# Altium footprint library TO.PcbLib: 2 footprints
Each footprint in its own frame and in the unit in brackets; x right, y up, seen from the top. Pads: shape width x height; smd on the part's side, far side on the other; paste and mask are expansions set on the pad; w line width, h text height; cw(c..) or ccw(c..) is an arc to the next point about the centre after c.
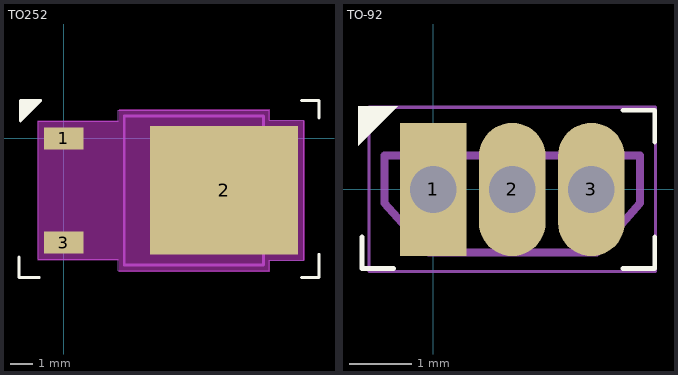
[diagram p0: the footprints below, top view; thin cyan lines are the x and y axes]

## TO252 [mm]
pads (3):
  rect 1.73x0.96 smd: 1(0,0) 3(0,-4.57)
  rect 6.49x5.63 smd paste-4: 2(7.02,-2.285)
Top Overlay:
  region: -1.015,1.652 -1.904,1.652 -1.904,0.763
  lines w0.127: -1.967,-5.206 -1.967,-6.095 -1.078,-6.095 ; 10.415,-6.095 11.177,-6.095 11.177,-5.079 ; 10.415,1.652 11.177,1.652 11.177,0.89 ; -1.904,0.763 -1.015,1.652 -1.904,1.652 -1.904,0.763
Top Paste:
  region: 7.735,-1.73 6.305,-1.73 6.305,-0.02 7.735,-0.02
  region: 9.905,-1.73 8.475,-1.73 8.475,-0.02 9.905,-0.02
  region: 5.565,-1.73 4.135,-1.73 4.135,-0.02 5.565,-0.02
  region: 5.565,-4.55 4.135,-4.55 4.135,-2.84 5.565,-2.84
  region: 7.735,-4.55 6.305,-4.55 6.305,-2.84 7.735,-2.84
  region: 9.905,-4.55 8.475,-4.55 8.475,-2.84 9.905,-2.84
Keep-Out Layer:
  region: 2.414,1.271 9.018,1.271 9.018,0.763 10.542,0.763 10.542,-5.333 9.018,-5.333 9.018,-5.841 2.414,-5.841 2.414,-5.333 -1.142,-5.333 -1.142,0.763 2.414,0.763
Mechanical 13:
  lines w0.127: 2.642,-5.555 2.642,0.985 8.743,0.985 8.743,-5.555 2.642,-5.555
Mechanical 15:
  lines w0.05: -1.115,-5.31 -1.115,0.74 2.392,0.74 2.392,1.235 8.993,1.235 8.993,0.78 10.515,0.78 10.515,-5.35 8.993,-5.35 8.993,-5.805 2.392,-5.805 2.392,-5.31 -1.115,-5.31
3D body "LM317AMDT.STEP": height 2.7, standoff -0.02, extent -0.255,-5.555 9.655,0.985

## TO-92 [mm]
pads (3):
  rect 1.07x2.14 hole 0.75: 1(0,0)
  oval 1.07x2.14 hole 0.75: 2(1.27,0) 3(2.54,0)
Top Overlay:
  region: -0.572,1.333 -1.206,1.333 -1.206,0.699
  lines w0.076: -1.143,-0.762 -1.143,-1.27 -0.635,-1.27 ; 3.048,-1.27 3.556,-1.27 3.556,-0.762 ; 3.048,1.27 3.556,1.27 3.556,0.762
Mechanical 13:
  lines w0.127: 2.61,-1.015 -0.07,-1.015 -0.78,-0.22 -0.78,0.543 3.32,0.543 3.32,-0.22 2.62,-1.015
Mechanical 15:
  lines w0.05: -1.03,-1.32 -1.03,1.32 3.57,1.32 3.57,-1.32 -1.03,-1.32
3D body "LPG0003A.stp": height 5.1, standoff -13.35, extent -0.73,-0.885 3.27,0.635